# EAGLE library part HEADER1X9 (library !headers)
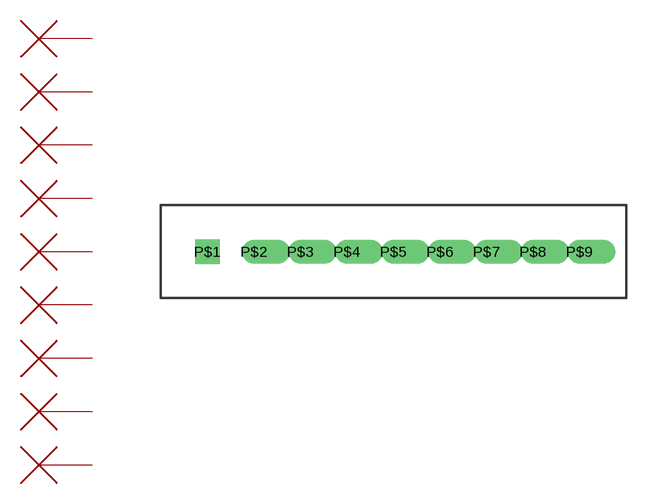
[diagram p0: symbol with the pads of SIP_9PIN; footprint SIP_9PIN]

Designator prefix -

## HEADER1X9  [SIP_9PIN]
P$1  P$1
P$2  P$2
P$3  P$3
P$4  P$4
P$5  P$5
P$6  P$6
P$7  P$7
P$8  P$8
P$9  P$9

## Footprint SIP_9PIN (pad centres in mm)
drill 0.813 square: P$1 -10.16,0
drill 0.813 offset: P$2 -7.62,0; P$3 -5.08,0; P$4 -2.54,0; P$5 0,0; P$6 2.54,0; P$7 5.08,0; P$8 7.62,0; P$9 10.16,0